# Altium footprint library SO8.PcbLib: 1 footprints
Each footprint in its own frame and in the unit in brackets; x right, y up, seen from the top. Pads: shape width x height; smd on the part's side, far side on the other; paste and mask are expansions set on the pad; w line width, h text height; cw(c..) or ccw(c..) is an arc to the next point about the centre after c.
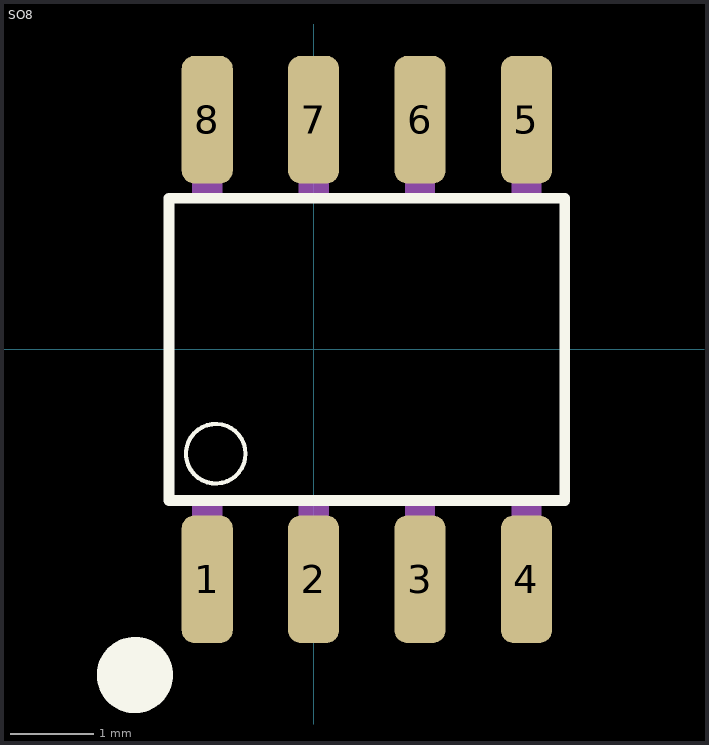
[diagram p0: the footprint, top view; thin cyan lines are the x and y axes]

## SO8 [mil]
pads (8):
  rrect50% 24x60 smd: 1(-50,-108) 2(0,-108) 3(50,-108) 4(100,-108) 5(100,108) 6(50,108) 7(0,108) 8(-50,108)
Top Overlay:
  circle w2: c-46,-49 r14
  lines w5: -68,-71 118,-71 118,71 -68,71 -68,-71
  lines w19.68: -76.66,-149.66 ccw(c-84,-153) -76.22,-150.88
Mechanical 13:
  region: -43,-113.07 -57.04,-113.07 -57.04,-73 -43,-73
  region: 7,-113.21 -7.01,-113.21 -7.01,-73 7,-73
  region: 57,-113.06 43.02,-113.06 43.02,-73 57,-73
  region: 107,-113.01 93.01,-113.01 93.01,-73 107,-73
  region: -43,73.12 -57.09,73.12 -57.09,113 -43,113
  region: 7,73.08 -7.01,73.08 -7.01,113 7,113
  region: 57,73.04 43.02,73.04 43.02,113 57,113
  region: 107,73.07 93.09,73.07 93.09,113 107,113
3D body "CircuitWorks-SO-8.STEP": height 57, standoff 0, extent -71,-113.24 122,114.25